# Altium schematic symbol library APN337S3959.SchLib: 1 symbol
Pins are listed as number, name and electrical type; pins without a type are passive.

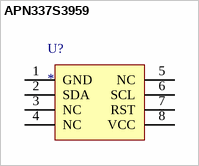
[diagram p0: symbol APN337S3959]

## APN337S3959
designator U?
APPLE CP 2.0c
pins: 1 GND, 2 SDA, 3 NC, 4 NC, 5 NC, 6 SCL, 7 RST, 8 VCC
1 alternate drawing of the same symbol